# Altium footprint library SOP-8.PcbLib: 1 footprints
Each footprint in its own frame and in the unit in brackets; x right, y up, seen from the top. Pads: shape width x height; smd on the part's side, far side on the other; paste and mask are expansions set on the pad; w line width, h text height; cw(c..) or ccw(c..) is an arc to the next point about the centre after c.
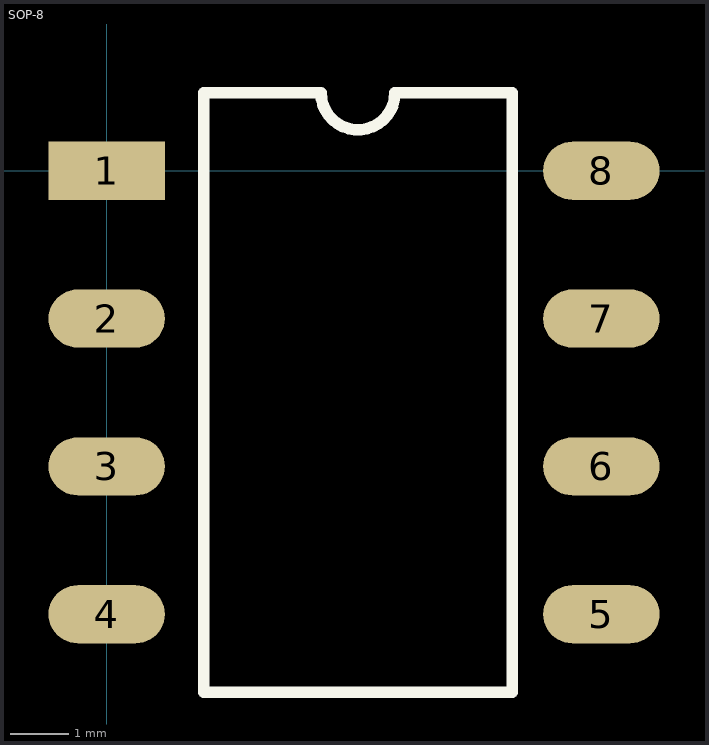
[diagram p0: the footprint, top view; thin cyan lines are the x and y axes]

## SOP-8 [mm]
pads (8):
  rect 2x1 smd: 1(0,0)
  oval 2x1 smd: 2(0,-2.54) 3(0,-5.08) 4(0,-7.62) 5(8.5,-7.62) 6(8.5,-5.08) 7(8.5,-2.54) 8(8.5,0)
Top Overlay:
  lines w0.2: 1.668,-8.96 6.968,-8.96 6.968,1.34 4.953,1.34 cw(c4.318,1.34) 3.683,1.34 1.668,1.34 1.668,-8.96
3D body "SOP-8-2_54.step": height 2.05, standoff 0, extent 0.889,-8.383 7.689,1.017